# Altium schematic symbol library 282837-2.SchLib: 1 symbol
Pins are listed as number, name and electrical type; pins without a type are passive.

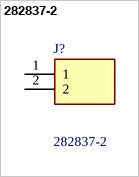
[diagram p0: symbol 282837-2]

## 282837-2
designator J?
Body Features: Product Orientation Vertical | Primary Product Color Green | Configuration Features: Wire Entry Location Side | Stacking Configuration Side Stackable | Number of Rows 1 | Stacked Levels Without | Number of Positions 2 | Wire Entry Angle 90 | Contact Features: Contact Current Rating (Max) 13.5 AMP | Contact Mating Area Plating Material Tin | Contact Base Material Brass | Dimensions: Wire Size 30  16 AWG | Wire Size .05  1.3 MMSQ | Electrical Characteristics: Operating Voltage 300 VAC; Manufacturer_Name: TE Connectivity; Geometry.Height: 10.3mm; Mouser Part Number: 571-2828372; Mouser Price/Stock: https://www.mouser.co.uk/ProductDetail/TE-Connectivity/282837-2?qs=A%252Bip%252BNCYi6O2H0NGWOeAxg%3D%3D; Manufacturer_Part_Number: 282837-2; Datasheet Link: https://www.te.com/commerce/DocumentDelivery/DDEController?Action=srchrtrv&DocNm=1-1773458-1_EURO_STYLE_QRG&DocType=Data%20Sheet&DocLang=English&PartCntxt=282837-2&DocFormat=pdf
footprint 2828372
pins: 1, 2